# Altium footprint library 张志松开发板.PcbLib: 38 footprints (part 3 of 3)
Each footprint in its own frame and in the unit in brackets; x right, y up, seen from the top. Pads: shape width x height; smd on the part's side, far side on the other; paste and mask are expansions set on the pad; w line width, h text height; cw(c..) or ccw(c..) is an arc to the next point about the centre after c.
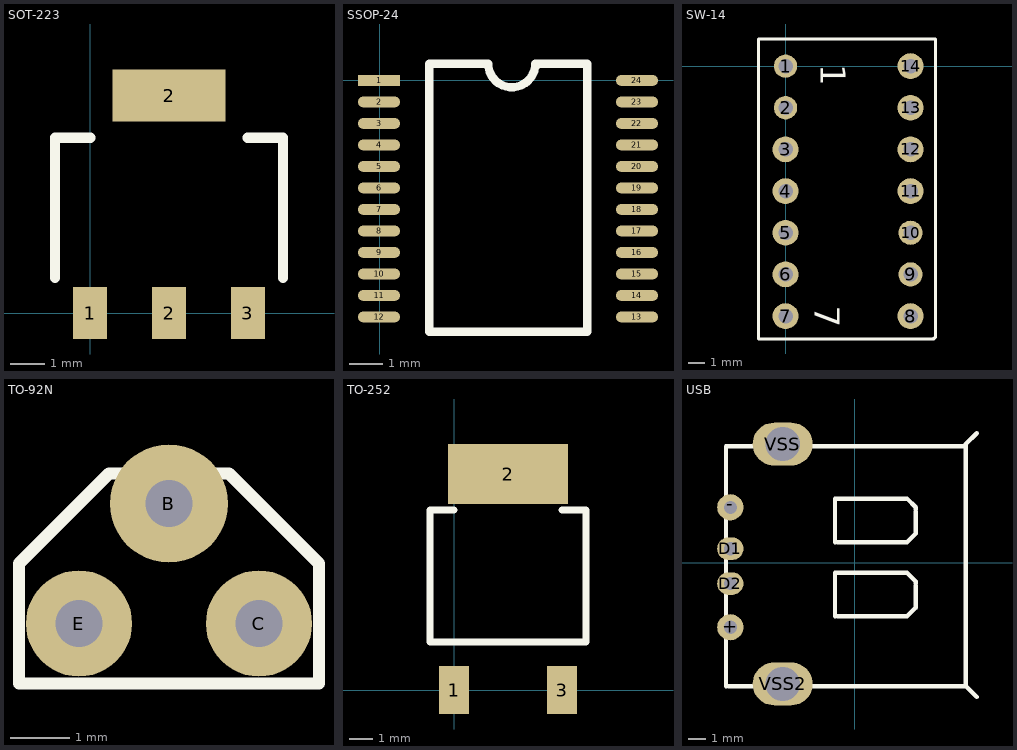
[diagram p2: the footprints below, top view; thin cyan lines are the x and y axes]

## SOT-223 [mil]
pads (4):
  rect 39x59 smd: 1(0,0) 3(180,0)
  rect 38.98x59.05 smd: 2(90,0)
  rect 129.13x59 smd: 2(90,248.03)
Top Overlay:
  lines w11.81: -40,40 -40,200 0,200 ; 180,200 220,200 220,40

## SSOP-24 [mm]
pads (24):
  rect 1.27x0.33 smd: 1(-0.025,0)
  oval 1.27x0.33 smd: 2(-0.025,-0.65) 3(-0.025,-1.3) 4(-0.025,-1.95) 5(-0.025,-2.6) 6(-0.025,-3.25) 7(-0.025,-3.9) 8(-0.025,-4.55) 9(-0.025,-5.2) 10(-0.025,-5.85) 11(-0.025,-6.5) 12(-0.025,-7.15) 13(7.775,-7.15) 14(7.775,-6.5) 15(7.775,-5.85) 16(7.775,-5.2) 17(7.775,-4.55) 18(7.775,-3.9) 19(7.775,-3.25) 20(7.775,-2.6) 21(7.775,-1.95) 22(7.775,-1.3) 23(7.775,-0.65) 24(7.775,0)
Top Overlay:
  lines w0.254: 6.223,-7.6 1.499,-7.6 1.499,0.5 3.269,0.5 3.277,0.508 ccw(c3.99,0.508) 4.703,0.508 6.266,0.508 6.274,0.5 6.274,-7.6

## SW-14 [mil]
pads (14):
  round 56 hole 35: 1(0,0) 2(0,-100)
  round 62 hole 35: 3(0,-200) 4(0,-300) 5(0,-400) 6(0,-500) 7(0,-600) 8(300,-600) 11(300,-300) 12(300,-200) 13(300,-100) 14(300,0)
  round 58 hole 35: 9(300,-500) 10(300,-400)
Top Overlay:
  lines w8: -65,-655 -65,65 360,65 360,-650 355,-655 -65,-655
  text "1" at 85,5 h60
  text "7" at 70,-575 h60

## TO-92N [mm]
pads (3):
  round 2 hole 0.8: B(-4.064,4.064)
  round 1.8 hole 0.8: C(-2.54,2.032) E(-5.588,2.032)
Top Overlay:
  lines w0.203: -6.604,1.016 -1.524,1.016 -1.524,3.048 -3.048,4.572 -5.08,4.572 -6.604,3.048 -6.604,1.016

## TO-252 [mil]
pads (3):
  rect 50x80 smd: 1(0,0) 3(180,0)
  rect 200x100 smd: 2(90,360)
Top Overlay:
  lines w11.81: -40,80 -40,300 0,300 ; 180,300 220,300 220,80
  lines w12: -40,80 220,80

## USB [mm]
pads (6):
  round 1.524 hole 0.762: +(-7.255,-3.757) -(-7.255,3.228)
  oval 1.524x1.324 hole 0.762: D1(-7.255,0.815) D2(-7.255,-1.217)
  oval 3.5x2.5 hole 2: VSS(-4.207,6.911) VSS2(-4.207,-7.059)
Top Overlay:
  lines w0.254: -7.509,-7.186 -7.509,6.784 6.461,6.784 ; -7.382,-7.186 6.461,-7.186 ; -1.159,-3.122 -1.159,-0.582 3.032,-0.582 3.54,-1.09 3.54,-1.217 ; -1.159,1.196 -1.159,3.736 3.032,3.736 3.54,3.228 3.54,3.101 ; -1.032,-3.122 3.032,-3.122 3.54,-2.614 3.54,-1.344 ; -1.032,1.196 3.032,1.196 3.54,1.704 3.54,2.974 ; 7.096,-7.821 6.461,-7.186 ; 7.096,7.546 6.461,6.911 6.461,6.784 ; 6.461,-7.186 6.461,6.784